# Altium schematic symbol library Pads.SchLib: 3 symbols
Pins are listed as number, name and electrical type; pins without a type are passive.

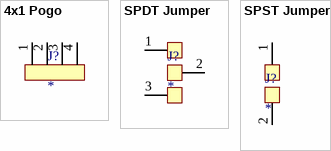
[diagram p0: symbols 4x1 Pogo to SPST Jumper]

## 4x1 Pogo
designator J?
pins: 1, 2, 3, 4

## SPDT Jumper
designator J?
footprint SPDT Jumper
pins: 1, 2, 3

## SPST Jumper
designator J?
footprint SPST Solder Jumper
pins: 1, 2